# Altium schematic symbol library Vicor.SchLib: 3 symbols
Pins are listed as number, name and electrical type; pins without a type are passive.

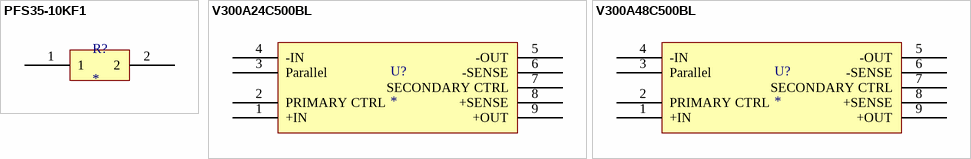
[diagram p0: symbols PFS35-10KF1 to V300A48C500BL]

## PFS35-10KF1
designator R?
10 kOhms ±1% 35W Chip Resistor TO-263-3, D²Pak (2 Leads + Tab), TO-263AB Current Sense, Pulse Withstanding Thin Film
footprint PWR263S-20-1002F
pins: 1, 2

## V300A24C500BL
designator U?
300V Step Down DCDC; ComponentLink1Description: Datasheet; ComponentLink1URL: http://cdn.vicorpower.com/documents/datasheets/ds_300vin-maxi-family.pdf
footprint V300xx
pins: 1 +IN, 2 PRIMARY CTRL, 3 Parallel, 4 -IN, 5 -OUT, 6 -SENSE, 7 SECONDARY CTRL, 8 +SENSE, 9 +OUT

## V300A48C500BL
designator U?
300V Step Down DCDC; ComponentLink1Description: Datasheet; ComponentLink1URL: http://cdn.vicorpower.com/documents/datasheets/ds_300vin-maxi-family.pdf
footprint V300xx
pins: 1 +IN, 2 PRIMARY CTRL, 3 Parallel, 4 -IN, 5 -OUT, 6 -SENSE, 7 SECONDARY CTRL, 8 +SENSE, 9 +OUT